# EAGLE library part SOC_RK3566 (library !GPLIB_ACTIVE)
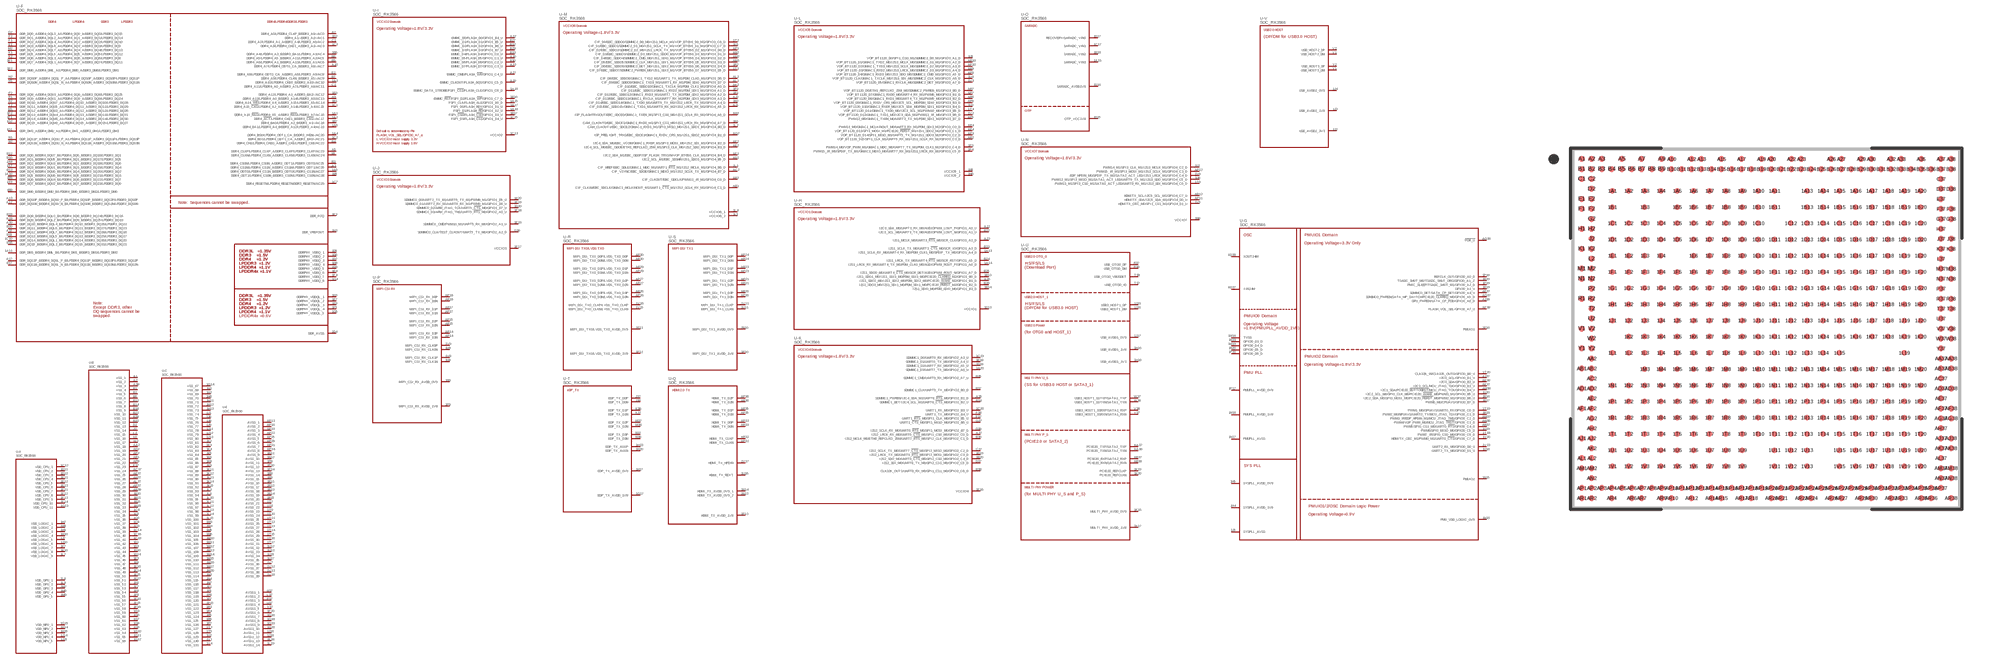
[diagram p53: symbol with the pads of BGA565C155X144; footprint BGA565C155X144]

Designator prefix U; gates -B=RK3566_VSS1 -C=RK3566_VSS2 -A=RK3566_!PWR -P=RK3566_MIPI_CSI_RX -F=RK3566-DDR -H=RK3566-H -I=RK3566-EMMC -K=RK3566-K -L=RK3566-L -R=RK3566-MIPI_DSI_TX0 -N=RK3566-N -O=RK3566-O -G=RK3566-PMU -Q=RK3566-Q -S=RK3566-S -T=RK3566-T -U=RK3566-U -V=RK3566-V -J=RK3566-VCCIO3 -M=RK3566-VCCIO6 -E=RK3566_AVSS-2

## SOC_RK3566_RK3566  [BGA565C155X144]
1A1  -F:DDR4_A16_!RAS!/LPDDR4_A5_A/DDR3_!RAS!/LPDDR3_A7/AC16
1A2  -F:DDR4_!ACT!/LPDDR4_CKE1_B/DDR3_!CAS!/-/AC17
1A3  -F:DDR4_A10/LPDDR4_CKE0_B/DDR3_A10/-/AC10
1A4  -F:DDR4_BG0/LPDDR4_ODT1_CA_B/DDR3_WEN/-/AC20
1A5  -F:DDR4_ODT0/LPDDR4_CS1N_B/DDR3_ODT0/LPDDR3_CS1N/AC27
1A6  -F:DDR4_BA1/LPDDR4_A4_B/DDR3_A12/LPDDR3_A4/AC19
1A7  -F:DDR_DQ3_B/DDR4_DQU1_B/LPDDR4_DQ3_B/DDR3_DQ19/LPDDR3_DQ4
1A8  -F:DDR_DQ2_B/DDR4_DQU3_B/LPDDR4_DQ2_B/DDR3_DQ18/LPDDR3_DQ6
1A9  -F:DDR_DQ7_B/DDR4_DQU2_B/LPDDR4_DQ7_B/DDR3_DQ23/LPDDR3_DQ0
1A10  -F:DDR_DQ5_B/DDR4_DQU6_B/LPDDR4_DQ5_B/DDR3_DQ21/LPDDR3_DQ3
1A11  -F:DDR_DM1_B/DDR4_DML_B/LPDDR4_DM1_B/DDR3_DM3/LPDDR3_DM2
1A13  -H:I2S1_SCLK_RX_M0/UART4_RX_M0/PDM_CLK1_M0/SPDIF_TX_M0/GPIO1_A4_D
1A14  -H:I2S1_LRCK_RX_M0/UART4_TX_M0/PDM_CLK0_M0/AUDIOPWM_ROUT_P/GPIO1_A6_D
1A15  -I:FSPI_CLK/FLASH_ALE/GPIO1_D0_D
1A16  -I:EMMC_DATA_STROBE/FSPI_!CS1!/FLASH_CLE/GPIO1_C6_D
1A17  -I:FSPI_D0/FLASH_RDY/GPIO1_D1_U
1A18  -I:FSPI_D1/FLASH_!RD!/GPIO1_D2_U
1A19  -O:SARADC_VIN3
1A20  -K:SDMMC1_D3/UART7_TX_M0/GPIO2_A6_U
1B1  -F:DDR4_A14_!WE!/LPDDR4_A4_A/DDR3_A15/LPDDR3_A5/AC14
1B3  -F:DDR4_A12/LPDDR4_A3_A/DDR3_BA2/-/AC12
1B5  -F:DDR4_ODT1/LPDDR4_CS0N_B/DDR3_CS0N/LPDDR3_CS0N/AC28
1B6  -F:DDR4_A4/LPDDR4_A3_B/DDR3_BA1/LPDDR3_A3/AC4
1B7  -F:DDR4_BA0/LPDDR4_A2_B/DDR3_A1/-/AC18
1B8  -F:DDR_DM0_B/DDR4_DMU_B/LPDDR4_DM0_B/DDR3_DM2/LPDDR3_DM0
1B9  -F:DDR_DQ6_B/DDR4_DQU4_B/LPDDR4_DQ6_B/DDR3_DQ22/LPDDR3_DQ7
1B10  -B:VSS_30  pwr
1B11  -B:VSS_31  pwr
1B13  -H:I2S1_SDO1_M0/I2S1_SDI3_M0/PDM_SDI3_M0/PCIE20_!CLKREQ!_M2/GPIO1_B0_D
1B14  -H:I2S1_SDI0_M0/PDM_SDI0_M0/GPIO1_B3_D
1B15  -B:VSS_32  pwr
1B16  -I:EMMC_!RST!/FSPI_D2/FLASH_!WP!/GPIO1_C7_D
1B17  -I:FSPI_!CS0!/FLASH_!CS0!/GPIO1_D3_U
1B18  -O:SARADC_VIN2
1B19  -B:VSS_33  pwr
1B20  -K:I2S2_SDO_M0/UART9_!CTS!_M0/SPI2_CS0_M0/GPIO2_C4_D
1C1  -F:DDR4_A15_!CAS!/LPDDR4_A2_A/DDR3_A14/LPDDR3_A4/AC15
1C2  -F:DDR4_BG1/LPDDR4_ODT1_CA_A/DDR3_BA0/-/AC21
1C3  -F:DDR4_A3/LPDDR4_CKE1_A/DDR3_A3/-/AC3
1C4  -B:VSS_34  pwr
1C5  -B:VSS_35  pwr
1C6  -B:VSS_36  pwr
1C7  -F:DDR4_RESETN/LPDDR4_RESETN/DDR3_RESETN/AC29
1C8  -B:VSS_37  pwr
1C9  -B:VSS_38  pwr
1C10  -F:DDR_DQ14_B/DDR4_DQL1_B/LPDDR4_DQ14_B/DDR3_DQ30/LPDDR3_DQ20
1C12  -A:VDD_CPU_1  pwr
1C13  -I:VCCIO2
1C14  -B:VSS_39  pwr
1C15  -I:FSPI_D3/FLASH_!CS1!/GPIO1_D4_U
1C16  -B:VSS_40  pwr
1C17  -O:SARADC_VIN1
1C18  -B:VSS_41  pwr
1C19  -K:SDMMC1_D0/UART6_RX_M0/GPIO2_A3_U
1C20  -K:UART1_RX_M0/GPIO2_B3_U
1D1  -B:VSS_42  pwr
1D2  -F:DDR4_A1/-/DDR3_A2/-/AC1
1D3  -B:VSS_43  pwr
1D4  -F:DDR_AVSS
1D5  -F:DDRPHY_VDDQ_1
1D6  -F:DDRPHY_VDDQ_2
1D7  -F:DDRPHY_VDDQ_3
1D8  -F:DDRPHY_VDDQ_4
1D9  -F:DDRPHY_VDDQ_5
1D10  -B:VSS_44  pwr
1D11  -A:VDD_CPU_2  pwr
1D12  -A:VDD_CPU_3  pwr
1D13  -H:VCCIO1
1D14  -B:VSS_45  pwr
1D15  -O:OTP_VCC1V8
1D16  -O:SARADC_AVDD1V8
1D17  -O:RECOVERY/SARADC_VIN0  in
1D18  -K:SDMMC1_D2/UART7_RX_M0/GPIO2_A5_U
1D19  -K:I2S2_LRCK_TX_M0/UART9_!RTS!_M0/SPI2_MOSI_M0/GPIO2_C3_D
1D20  -J:SDMMC0_D2/ARM_JTAG_TCK/UART5_!CTS!_M0/GPIO1_D7_U
1E1  -F:DDR_DQ7_A/DDR4_DQL1_A/LPDDR4_DQ7_A/DDR3_DQ7/LPDDR3_DQ11
1E2  -F:DDR_DM0_A/DDR4_DML_A/LPDDR4_DM0_A/DDR3_DM0/LPDDR3_DM1
1E3  -B:VSS_46  pwr
1E4  -F:DDRPHY_VDDQ_6
1E6  -F:DDRPHY_VDDQL_1
1E7  -F:DDRPHY_VDDQL_2
1E8  -B:VSS_47  pwr
1E9  -F:DDRPHY_VDDQL_3
1E10  -B:VSS_48  pwr
1E11  -A:VDD_CPU_4  pwr
1E12  -A:VDD_CPU_5  pwr
1E13  -A:VDD_CPU_6  pwr
1E14  -B:VSS_49  pwr
1E15  -B:VSS_50  pwr
1E16  -K:VCCIO4
1E17  -B:VSS_51  pwr
1E18  -K:SDMMC1_D1/UART6_TX_M0/GPIO2_A4_U
1E19  -J:SDMMC0_CMD/PWM10_M1/UART5_RX_M0/GPIO2_A1_U
1E20  -J:SDMMC0_D0/UART2_TX_M1/UART6_TX_M1/PWM8_M1/GPIO1_D5_U
1F1  -F:DDR_DQ14_A/DDR4_DQU6_A/LPDDR4_DQ14_A/DDR3_DQ14/LPDDR3_DQ30
1F2  -F:DDR_DQ13_A/DDR4_DQU4_A/LPDDR4_DQ13_A/DDR3_DQ13/LPDDR3_DQ31
1F3  -F:DDR_RZQ
1F4  -F:DDRPHY_VDDQ_7
1F5  -F:DDRPHY_VDDQL_4
1F6  -B:VSS_52  pwr
1F7  -B:VSS_53  pwr
1F8  -B:VSS_54  pwr
1F9  -B:VSS_55  pwr
1F10  -B:VSS_56  pwr
1F11  -A:VDD_CPU_7  pwr
1F12  -A:VDD_CPU_8  pwr
1F13  -A:VDD_CPU_9  pwr
1F14  -A:VDD_CPU_10  pwr
1F15  -B:VSS_57  pwr
1F16  -B:VSS_58  pwr
1F17  -J:VCCIO3
1F18  -J:SDMMC0_D3/ARM_JTAG_TMS/UART5_!RTS!_M0/GPIO2_A0_U
1F19  -J:SDMMC0_D1/UART2_RX_M1/UART6_RX_M1/PWM9_M1/GPIO1_D6_U
1F20  -E:AVSS1_6  pwr
1G1  -F:DDR_DM1_A/DDR4_DMU_A/LPDDR4_DM1_A/DDR3_DM1/LPDDR3_DM3
1G2  -F:DDR_DQ15_A/DDR4_DQU0_A/LPDDR4_DQ15_A/DDR3_DQ15/LPDDR3_DQ27
1G3  -B:VSS_59  pwr
1G4  -F:DDRPHY_VDDQ_8
1G5  -F:DDRPHY_VDDQL_5
1G6  -B:VSS_60  pwr
1G7  -B:VSS_61  pwr
1G8  -B:VSS_62  pwr
1G9  -B:VSS_63  pwr
1G10  -B:VSS_64  pwr
1G11  -B:VSS_65  pwr
1G12  -B:VSS_66  pwr
1G13  -A:VDD_CPU_11  pwr
1G14  -C:VSS_67  pwr
1G15  -A:VDD_NPU_1  pwr
1G16  -E:AVSS1_7  pwr
1G17  -T:EDP_TX_AVDD_1V8
1G18  -E:AVSS1_8  pwr
1G19  -E:AVSS1_9  pwr
1G20  -E:AVSS1_10  pwr
1H1  -C:VSS_68  pwr
1H2  -C:VSS_69  pwr
1H3  -F:DDR_VREFOUT
1H4  -G:SYSPLL_AVDD_1V8  pwr
1H5  -G:SYSPLL_AVDD_0V9  pwr
1H6  -C:VSS_70  pwr
1H7  -A:VDD_LOGIC_1  pwr
1H8  -A:VDD_LOGIC_2  pwr
1H9  -A:VDD_LOGIC_3  pwr
1H10  -A:VDD_LOGIC_4  pwr
1H11  -C:VSS_71  pwr
1H12  -C:VSS_72  pwr
1H13  -C:VSS_73  pwr
1H14  -A:VDD_NPU_2  pwr
1H15  -A:VDD_NPU_3  pwr
1H16  -U:USB_AVDD1_1V8  pwr
1H17  -T:EDP_TX_AVDD_0V9
1H18  -U:USB_AVDD1_3V3  pwr
1H19  -T:EDP_TX_AUXP
1H20  -T:EDP_TX_AUXN
1J1  -C:VSS_74  pwr
1J2  -V:USB_AVDD2_3V3  pwr
1J3  -V:USB_AVDD2_1V8  pwr
1J4  -V:USB_AVDD2_0V9  pwr
1J5  -G:SYSPLL_AVSS  pwr
1J6  -C:VSS_75  pwr
1J7  -A:VDD_LOGIC_5  pwr
1J8  -C:VSS_76  pwr
1J9  -C:VSS_77  pwr
1J10  -A:VDD_LOGIC_6  pwr
1J11  -C:VSS_78  pwr
1J12  -C:VSS_79  pwr
1J13  -C:VSS_80  pwr
1J14  -A:VDD_NPU_4  pwr
1J15  -A:VDD_NPU_5  pwr
1J16  -E:AVSS1_11  pwr
1J17  -U:USB_AVDD1_0V9  pwr
1J18  -E:AVSS1_12  pwr
1J19  -U:USB3_HOST1_DP
1J20  -U:USB3_HOST1_DM
1K2  -C:VSS_81  pwr
1K3  -C:VSS_82  pwr
1K4  -C:VSS_83  pwr
1K5  -C:VSS_84  pwr
1K6  -C:VSS_85  pwr
1K7  -A:VDD_LOGIC_7  pwr
1K8  -C:VSS_86  pwr
1K9  -C:VSS_87  pwr
1K10  -A:VDD_LOGIC_8  pwr
1K11  -C:VSS_88  pwr
1K12  -C:VSS_89  pwr
1K13  -C:VSS_90  pwr
1K14  -C:VSS_91  pwr
1K15  -C:VSS_92  pwr
1K16  -U:MULTI_PHY_AVDD_0V9
1K17  -U:MULTI_PHY_AVDD_1V8
1K18  -E:AVSS1_13  pwr
1K19  -U:PCIE20_REFCLKP
1K20  -U:PCIE20_REFCLKN
1L1  -M:CIF_HREF/EBC_SDLE/GMAC1_MDC_M1/UART1_!RTS!_M1/I2S2_MCLK_M1/GPIO4_B6_D
1L2  -M:CAM_CLKOUT1/EBC_SDCE2/GMAC1_RXD1_M1/SPI3_MISO_M0/I2S1_SDO1_M1/GPIO4_B0_D
1L3  -C:VSS_93  pwr
1L4  -M:VCCIO6_1
1L5  -M:VCCIO6_2
1L6  -C:VSS_94  pwr
1L7  -A:VDD_LOGIC_9  pwr
1L8  -A:VDD_GPU_1  pwr
1L9  -A:VDD_GPU_2  pwr
1L10  -C:VSS_95  pwr
1L11  -C:VSS_96  pwr
1L12  -C:VSS_97  pwr
1L13  -C:VSS_98  pwr
1L14  -C:VSS_99  pwr
1L15  -C:VSS_100  pwr
1L19  -E:AVSS1_14  pwr
1M3  -C:VSS_101  pwr
1M4  -C:VSS_102  pwr
1M5  -C:VSS_103  pwr
1M6  -C:VSS_104  pwr
1M7  -A:VDD_GPU_3  pwr
1M8  -A:VDD_GPU_4  pwr
1M9  -A:VDD_GPU_5  pwr
1M10  -C:VSS_105  pwr
1M11  -C:VSS_106  pwr
1M12  -C:VSS_107  pwr
1M13  -C:VSS_108  pwr
1M14  -C:VSS_109  pwr
1M15  -C:VSS_110  pwr
1M16  -C:VSS_111  pwr
1M17  -C:VSS_112  pwr
1M18  -G:TVSS  pwr
1M19  -G:GPIO0_D4_D
1M20  -C:VSS_113  pwr
1N1  -M:CAM_CLKOUT0/EBC_SDCE1/GMAC1_RXD0_M1/SPI3_CS1_M0/I2S1_LRCK_RX_M1/GPIO4_A7_D
1N2  -M:CIF_D14/EBC_SDDO14/GMAC1_TXD0_M1/UART9_TX_M2/I2S2_LRCK_TX_M1/GPIO4_A4_D
1N3  -C:VSS_114  pwr
1N4  -C:VSS_115  pwr
1N5  -L:VCCIO5_1
1N6  -L:VCCIO5_2
1N7  -C:VSS_116  pwr
1N8  -N:VCCIO7
1N9  -P:MIPI_CSI_RX_AVDD_0V9  pwr
1N10  -S:MIPI_DSI_TX1_AVDD_0V9
1N11  -E:AVSS_9  pwr
1N12  -E:AVSS_10  pwr
1N13  -Q:HDMI_TX_AVDD_0V9_2
1N14  -Q:HDMI_TX_AVDD_0V9_1
1N15  -G:PMUIO2
1N16  -G:PMU_VDD_LOGIC_0V9
1N17  -G:PMUPLL_AVSS  pwr
1N18  -G:PMUPLL_AVDD_1V8  pwr
1N19  -G:GPIO0_D3_D
1N20  -G:GPIO0_D5_D
1P1  -C:VSS_117  pwr
1P2  -M:CIF_D11/EBC_SDDO11/GMAC1_RXD2_M1/PDM_SDI1_M1/GPIO4_A1_D
1P3  -L:PWM14_M0/VOP_PWM_M1/GMAC1_MDC_M0/UART7_TX_M1/PDM_CLK1_M2/GPIO3_C4_D
1P4  -L:PWM15_IR_M0/SPDIF_TX_M1/GMAC1_MDIO_M0/UART7_RX_M1/I2S1_LRCK_RX_M2/GPIO3_C5_D
1P5  -C:VSS_118  pwr
1P6  -C:VSS_119  pwr
1P7  -C:VSS_120  pwr
1P8  -E:AVSS_11  pwr
1P9  -P:MIPI_CSI_RX_AVDD_1V8  pwr
1P10  -E:AVSS_12  pwr
1P11  -R:MIPI_DSI_TX0/LVDS_TX0_AVDD_0V9
1P12  -R:MIPI_DSI_TX0/LVDS_TX0_AVDD_1V8
1P13  -Q:HDMI_TX_AVDD_1V8
1P14  -E:AVSS_13  pwr
1P15  -C:VSS_121  pwr
1P16  -G:PMUIO1
1P17  -G:PMUPLL_AVDD_0V9  pwr
1P18  -G:REFCLK_OUT/GPIO0_A0_D
1P19  -G:PMIC_SLEEP/TSADC_SHUT_M1/GPIO0_A2_D
1P20  -G:GPIO0_D6_D
1R1  -M:CIF_D12/EBC_SDDO12/GMAC1_RXD3_M1/UART7_TX_M2/PDM_SDI2_M1/GPIO4_A2_D
1R2  -M:CIF_D6/EBC_SDDO6/SDMMC2_DET_M0/I2S1_SDI2_M1/VOP_BT656_D6_M1/GPIO3_D4_D
1R3  -C:VSS_122  pwr
1R4  -C:VSS_123  pwr
1R5  -C:VSS_124  pwr
1R6  -C:VSS_125  pwr
1R7  -C:VSS_126  pwr
1R8  -E:AVSS_14  pwr
1R9  -E:AVSS_15  pwr
1R10  -S:MIPI_DSI_TX1_AVDD_1V8
1R11  -E:AVSS_16  pwr
1R12  -E:AVSS_17  pwr
1R13  -E:AVSS_18  pwr
1R14  -E:AVSS_19  pwr
1R15  -E:AVSS_20  pwr
1R16  -G:I2C2_SDA_M0/SPI0_MOSI_M0/PCIE20_!PERST!_M0/PWM2_M1/GPIO0_B6_U
1R17  -G:PWM0_M0/CPUAVS/GPIO0_B7_D
1R18  -G:PWM2_M0/NPUAVS/UART0_TX/MCU_JTAG_TDI/GPIO0_C1_D
1R19  -G:GPIO0_A3_U
1R20  -G:TSADC_SHUT_M0/TSADC_SHUT_ORG/GPIO0_A1_Z
1T1  -M:CIF_D7/EBC_SDDO7/SDMMC2_PWREN_M0/I2S1_SDI3_M1/VOP_BT656_D7_M1/GPIO3_D5_D
1T2  -M:CIF_D0/EBC_SDDO0/SDMMC2_D0_M0/I2S1_MCLK_M1/VOP_BT656_D0_M1/GPIO3_C6_D
1T3  -C:VSS_127  pwr
1T4  -L:VOP_BT1120_D11/GMAC1_TXD0_M0/I2C3_SCL_M1/PWM10_M0/GPIO3_B5_D
1T5  -C:VSS_128  pwr
1T6  -N:PWM13_M1/SPI3_CS0_M1/SATA0_ACT_LED/UART9_RX_M1/I2S3_SDI_M1/GPIO4_C6_D
1T7  -E:AVSS_21  pwr
1T8  -E:AVSS_22  pwr
1T9  -E:AVSS_23  pwr
1T10  -E:AVSS_24  pwr
1T11  -E:AVSS_25  pwr
1T12  -E:AVSS_26  pwr
1T13  -E:AVSS_27  pwr
1T14  -E:AVSS_28  pwr
1T15  -E:AVSS_29  pwr
1T16  -E:AVSS_30  pwr
1T17  -E:AVSS_31  pwr
1T18  -G:PWM7_IR/SPI0_CS0_M0/GPIO0_C6_D
1T19  -G:PWM1_M0/GPUAVS/UART0_RX/GPIO0_C0_D
1T20  -G:CLK32K_IN/CLK32K_OUT0/GPIO0_B0_U
1U1  -M:CIF_D1/EBC_SDDO1/SDMMC2_D1_M0/I2S1_SCLK_TX_M1/VOP_BT656_D1_M1/GPIO3_C7_D
1U2  -C:VSS_129  pwr
1U3  -L:VOP_BT1120_D10/GMAC1_RXER_M0/I2C5_SDA_M0/PDM_SDI1_M2/GPIO3_B4_D
1U4  -L:VOP_BT1120_CLK/GMAC1_TXCLK_M0/I2S3_SDI_M0/SDMMC2_CLK_M1/GPIO3_A6_D
1U5  -L:VOP_BT1120_D0/SPI1_CS0_M1/SDMMC2_D0_M1/GPIO3_A1_D
1U6  -N:PWM12_M1/SPI3_MISO_M1/SATA1_ACT_LED/UART9_TX_M1/I2S3_SDO_M1/GPIO4_C5_D
1U7  -N:PWM14_M1/SPI3_CLK_M1/I2S3_MCLK_M1/GPIO4_C2_D
1U8  -P:MIPI_CSI_RX_CLK1N
1U9  -P:MIPI_CSI_RX_CLK0N
1U11  -S:MIPI_DSI_TX1_CLKN
1U12  -E:AVSS_32  pwr
1U13  -E:AVSS_33  pwr
1U15  -E:AVSS_34  pwr
1U16  -Q:HDMI_TX_REXT
1U17  -E:AVSS_35  pwr
1U18  -G:UART2_TX_M0/GPIO0_D1_U
1U19  -G:PWM6/SPI0_MISO_M0/GPIO0_C5_D
1U20  -G:I2C2_SCL_M0/SPI0_CLK_M0/PCIE20_!WAKE!_M0/PWM1_M1/GPIO0_B5_U
1V1  -C:VSS_130  pwr
1V2  -L:VOP_BT1120_D12/GMAC1_TXD1_M0/I2C3_SDA_M1/PWM11_IR_M0/GPIO3_B6_D
1V3  -L:VOP_BT1120_D5/GMAC1_RXCLK_M0/SDMMC2_DET_M1/GPIO3_A7_D
1V4  -C:VSS_131  pwr
1V5  -N:HDMITX_CEC_M0/SPI3_CS1_M1/GPIO4_D1_U
1V6  -N:EDP_HPDIN_M0/SPDIF_TX_M2/SATA2_ACT_LED/I2S3_LRCK_M1/GPIO4_C4_D
1V7  -E:AVSS_36  pwr
1V8  -P:MIPI_CSI_RX_CLK1P
1V9  -P:MIPI_CSI_RX_CLK0P
1V11  -S:MIPI_DSI_TX1_CLKP
1V12  -E:AVSS_37  pwr
1V13  -E:AVSS_38  pwr
1V15  -R:MIPI_DSI_TX0_CLKN/LVDS_TX0_CLKN
1V16  -R:MIPI_DSI_TX0_CLKP/LVDS_TX0_CLKP
1V17  -Q:HDMI_TX_HPDIN
1V18  -E:AVSS_39  pwr
1V19  -G:UART2_RX_M0/GPIO0_D0_U
1V20  -G:HDMITX_CEC_M1/PWM0_M1/UART0_!CTS!/GPIO0_C7_D
A1  -B:VSS_1  pwr
A2  -B:VSS_2  pwr
A3  -F:DDR4_CS1N/LPDDR4_CS1N_A/DDR3_CS1N/LPDDR3_ODT1/AC26
A5  -F:DDR4_CLKP/LPDDR4_CLKP_A/DDR3_CLKP/LPDDR3_CLKP/AC23
A7  -F:DDR4_A0/LPDDR4_CLKP_B/DDR3_A9/-/AC0
A9  -F:DDR4_A13/LPDDR4_A0_B/DDR3_A14/LPDDR3_A0/AC13
A10  -F:DDR4_A7/LPDDR4_ODT0_CA_B/DDR3_A8/-/AC7
A12  -F:DDR_DQS0N_B/DDR4_DQSU_N_B/LPDDR4_DQS0N_B/DDR3_DQS2N/LPDDR3_DQS0N
A13  -F:DDR_DQS0P_B/DDR4_DQSU_P_B/LPDDR4_DQS0P_B/DDR3_DQS2P/LPDDR3_DQS0P
A15  -F:DDR_DQ12_B/DDR4_DQL7_B/LPDDR4_DQ12_B/DDR3_DQ28/LPDDR3_DQ16
A17  -F:DDR_DQS1P_B/DDR4_DQSL_P_B/LPDDR4_DQS1P_B/DDR3_DQS3P/LPDDR3_DQS2P
A19  -F:DDR_DQ9_B/DDR4_DQL2_B/LPDDR4_DQ9_B/DDR3_DQ25/LPDDR3_DQ19
A20  -F:DDR_DQ10_B/DDR4_DQL4_B/LPDDR4_DQ10_B/DDR3_DQ26/LPDDR3_DQ22
A22  -H:I2C3_SDA_M0/UART3_RX_M0/AUDIOPWM_LOUT_P/GPIO1_A0_U
A23  -H:I2S1_MCLK_M0/UART3_!RTS!_M0/SCR_CLK/GPIO1_A2_D
A26  -H:I2S1_SDO2_M0/I2S1_SDI2_M0/PDM_SDI2_M0/PCIE20_!WAKE!_M2/GPIO1_B1_D
A27  -I:EMMC_CMD/FLASH_!WR!/GPIO1_C4_U
A29  -I:EMMC_CLKOUT/FLASH_DQS/GPIO1_C5_D
A30  -I:EMMC_D5/FLASH_D5/GPIO1_C1_U
A32  -I:EMMC_D0/FLASH_D0/GPIO1_B4_U
A33  -I:EMMC_D7/FLASH_D7/GPIO1_C3_U
A35  -K:SDMMC1_PWREN/I2C4_SDA_M1/UART8_!RTS!_M0/GPIO2_B1_D
A37  -K:I2S2_LRCK_RX_M0/UART6_!CTS!_M0/SPI1_CS0_M0/GPIO2_C0_D
A38  -B:VSS_3  pwr
AA2  -B:VSS_18  pwr
AA37  -U:PCIE20_TXP/SATA2_TXP  out
AA38  -U:PCIE20_TXN/SATA2_TXN  out
AB1  -M:CIF_CLKIN/EBC_SDCLK/GMAC1_MCLKINOUT_M1/UART1_!CTS!_M1/I2S2_SCLK_RX_M1/GPIO4_C1_D
AB2  -M:CIF_CLKOUT/EBC_GDCLK/PWM11_IR_M1/GPIO4_C0_D
AB37  -U:PCIE20_RXP/SATA2_RXP  in
AB38  -U:PCIE20_RXN/SATA2_RXN  in
AC2  -M:CIF_VSYNC/EBC_SDOE/GMAC1_MDIO_M1/I2S2_SCLK_TX_M1/GPIO4_B7_D
AC37  -B:VSS_24  pwr
AD1  -M:I2C2_SCL_M1/EBC_SDSHR/I2S1_SDO3_M1/GPIO4_B5_D
AD2  -B:VSS_19  pwr
AD37  -G:XIN24M
AD38  -G:XOUT24M
AE2  -M:I2C4_SCL_M0/EBC_GDOE/ETH1_REFCLKO_25M_M1/SPI3_CLK_M0/I2S2_SDO_M1/GPIO4_B3_D
AE37  -B:VSS_25  pwr
AF1  -M:I2C2_SDA_M1/EBC_GDSP/ISP_FLASH_TRIGIN/VOP_BT656_CLK_M1/GPIO4_B4_D
AF2  -M:I2C4_SDA_M0/EBC_VCOM/GMAC1_RXER_M1/SPI3_MOSI_M0/I2S2_SDI_M1/GPIO4_B2_D
AF37  -G:SDMMC0_DET/SATA_CP_DET/GPIO0_A4_U
AF38  -G:FLASH_VOL_SEL/GPIO0_A7_U
AG2  -M:ISP_PRELIGHT_TRIG/EBC_SDCE3/GMAC1_RXDV_CRS_M1/I2S1_SDO2_M1/GPIO4_B1_D
AG37  -G:SDMMC0_PWREN/SATA_MP_SWITCH/PCIE20_!CLKREQ!_M0/GPIO0_A5_D
AG38  -G:!POR_U  in
AH2  -M:ISP_FLASHTRIGOUT/EBC_SDCE0/GMAC1_TXEN_M1/SPI3_CS0_M0/I2S1_SCLK_RX_M1/GPIO4_A6_D
AH37  -B:VSS_26  pwr
AJ1  -M:CIF_D15/EBC_SDDO15/GMAC1_TXD1_M1/UART9_RX_M2/I2S2_LRCK_RX_M1/GPIO4_A5_D
AJ2  -M:CIF_D13/EBC_SDDO13/GMAC1_RXCLK_M1/UART7_RX_M2/PDM_SDI3_M1/GPIO4_A3_D
AJ37  -G:I2C0_SCL/GPIO0_B1_U
AJ38  -G:GPU_PWREN/SATA_CP_POD/GPIO0_A6_D
AK2  -M:CIF_D10/EBC_SDDO10/GMAC1_TXCLK_M1/PDM_CLK1_M1/GPIO4_A0_D
AK37  -G:I2C1_SCL/MCU_JTAG_TDO/GPIO0_B3_U
AK38  -G:I2C0_SDA/GPIO0_B2_U
AL1  -M:CIF_D9/EBC_SDDO9/GMAC1_TXD3_M1/UART1_RX_M1/PDM_SDI0_M1/GPIO3_D7_D
AL2  -M:CIF_D8/EBC_SDDO8/GMAC1_TXD2_M1/UART1_TX_M1/PDM_CLK0_M1/GPIO3_D6_D
AL37  -B:VSS_27  pwr
AM1  -M:CIF_D5/EBC_SDDO5/SDMMC2_CLK_M0/I2S1_SDI1_M1/VOP_BT656_D5_M1/GPIO3_D3_D
AM2  -M:CIF_D4/EBC_SDDO4/SDMMC2_CMD_M0/I2S1_SDI0_M1/VOP_BT656_D4_M1/GPIO3_D2_D
AM37  -G:PWM3_IR/EDP_HPDIN_M1/MCU_JTAG_TMS/GPIO0_C2_D
AM38  -G:I2C1_SDA/PCIE20_!BUTTONRST!/MCU_JTAG_TCK/GPIO0_B4_U
AN2  -M:CIF_D3/EBC_SDDO3/SDMMC2_D3_M0/I2S1_SDO0_M1/VOP_BT656_D3_M1/GPIO3_D1_D
AN37  -G:PWM5/SPI0_CS1_M0/UART0_!RTS!/GPIO0_C4_D
AN38  -G:PWM4/VOP_PWM_M0/MCU_JTAG_!TRST!/GPIO0_C3_D
AP1  -M:CIF_D2/EBC_SDDO2/SDMMC2_D2_M0/I2S1_LRCK_TX_M1/VOP_BT656_D2_M1/GPIO3_D0_D
AP2  -B:VSS_20  pwr
AP3  -L:VOP_BT1120_D14/SPI1_MISO_M1/UART5_TX_M1/I2S1_SDO3_M2/GPIO3_C2_D
AP4  -L:VOP_BT1120_D13/SPI1_MOSI_M1/PCIE20_!PERST!_M1/I2S1_SDO2_M2/GPIO3_C1_D
AP5  -L:PWM12_M0/GMAC1_TXEN_M0/UART3_TX_M1/PDM_SDI2_M2/GPIO3_B7_D
AP6  -L:VOP_BT1120_D9/GMAC1_RXDV_CRS_M0/I2C5_SCL_M0/PDM_SDI0_M2/GPIO3_B3_D
AP7  -L:VOP_BT1120_D7/GMAC1_RXD0_M0/UART4_RX_M1/PWM8_M0/GPIO3_B1_D
AP8  -B:VSS_22  pwr
AP9  -L:VOP_BT1120_D4/GMAC1_RXD3_M0/I2S3_SDO_M0/SDMMC2_CMD_M1/GPIO3_A5_D
AP10  -L:VOP_BT1120_D2/GMAC1_TXD3_M0/I2S3_SCLK_M0/SDMMC2_D2_M1/GPIO3_A3_D
AP11  -N:HDMITX_SDA/I2C5_SDA_M1/GPIO4_D0_U
AP12  -N:PWM15_IR_M1/SPI3_MOSI_M1/I2S3_SCLK_M1/GPIO4_C3_D
AP13  -E:AVSS_1  pwr
AP14  -P:MIPI_CSI_RX_D3N
AP15  -P:MIPI_CSI_RX_D2P
AP16  -E:AVSS_2  pwr
AP17  -P:MIPI_CSI_RX_D1N
AP18  -P:MIPI_CSI_RX_D0P
AP19  -E:AVSS_3  pwr
AP20  -S:MIPI_DSI_TX1_D3N
AP21  -S:MIPI_DSI_TX1_D2P
AP22  -E:AVSS_4  pwr
AP23  -S:MIPI_DSI_TX1_D1N
AP24  -S:MIPI_DSI_TX1_D0P
AP25  -E:AVSS_5  pwr
AP26  -R:MIPI_DSI_TX0_D3N/LVDS_TX0_D3N
AP27  -R:MIPI_DSI_TX0_D2P/LVDS_TX0_D2P
AP28  -E:AVSS_6  pwr
AP29  -R:MIPI_DSI_TX0_D1N/LVDS_TX0_D1N
AP30  -R:MIPI_DSI_TX0_D0P/LVDS_TX0_D0P
AP31  -E:AVSS_7  pwr
AP32  -Q:HDMI_TX_CLKN
AP33  -Q:HDMI_TX_D0P
AP34  -E:AVSS_8  pwr
AP35  -Q:HDMI_TX_D1N
AP36  -Q:HDMI_TX_D2P
AP37  -B:VSS_28  pwr
AR1  -B:VSS_21  pwr
AR2  -L:VOP_BT1120_D15/SPI1_CLK_M1/UART5_RX_M1/I2S1_SCLK_RX_M2/GPIO3_C3_D
AR4  -L:PWM13_M0/GMAC1_MCLKINOUT_M0/UART3_RX_M1/PDM_SDI3_M2/GPIO3_C0_D
AR6  -L:VOP_BT1120_D8/GMAC1_RXD1_M0/UART4_TX_M1/PWM9_M0/GPIO3_B2_D
AR7  -L:VOP_BT1120_D6/ETH1_REFCLKO_25M_M0/SDMMC2_PWREN_M1/GPIO3_B0_D
AR9  -L:VOP_BT1120_D3/GMAC1_RXD2_M0/I2S3_LRCK_M0/SDMMC2_D3_M1/GPIO3_A4_D
AR10  -L:VOP_BT1120_D1/GMAC1_TXD2_M0/I2S3_MCLK_M0/SDMMC2_D1_M1/GPIO3_A2_D
AR12  -N:HDMITX_SCL/I2C5_SCL_M1/GPIO4_C7_U
AR14  -P:MIPI_CSI_RX_D3P
AR15  -P:MIPI_CSI_RX_D2N
AR17  -P:MIPI_CSI_RX_D1P
AR18  -P:MIPI_CSI_RX_D0N
AR20  -S:MIPI_DSI_TX1_D3P
AR21  -S:MIPI_DSI_TX1_D2N
AR23  -S:MIPI_DSI_TX1_D1P
AR24  -S:MIPI_DSI_TX1_D0N
AR26  -R:MIPI_DSI_TX0_D3P/LVDS_TX0_D3P
AR27  -R:MIPI_DSI_TX0_D2N/LVDS_TX0_D2N
AR29  -R:MIPI_DSI_TX0_D1P/LVDS_TX0_D1P
AR30  -R:MIPI_DSI_TX0_D0N/LVDS_TX0_D0N
AR32  -Q:HDMI_TX_CLKP
AR33  -Q:HDMI_TX_D0N
AR35  -Q:HDMI_TX_D1P
AR36  -Q:HDMI_TX_D2N
AR38  -B:VSS_29  pwr
B1  -B:VSS_4  pwr
B2  -B:VSS_5  pwr
B3  -F:DDR4_CS0N/LPDDR4_CS0N_A/DDR3_ODT1/LPDDR3_ODT0/AC25
B4  -F:DDR4_CKE/LPDDR4_CKE0_A/DDR3_CKE/LPDDR3_CKE/AC22
B5  -F:DDR4_CLKN/LPDDR4_CLKN_A/DDR3_CLKN/LPDDR3_CLKN/AC24
B6  -B:VSS_6  pwr
B7  -F:DDR4_A9/LPDDR4_CLKN_B/DDR3_A5/-/AC9
B8  -F:DDR4_A5/LPDDR4_A5_B/DDR3_A11/LPDDR3_A2/AC5
B9  -F:DDR4_A6/LPDDR4_A1_B/DDR3_A13/LPDDR3_A1/AC6
B10  -F:DDR_DQ1_B/DDR4_DQU5_B/LPDDR4_DQ1_B/DDR3_DQ17/LPDDR3_DQ5
B11  -B:VSS_7  pwr
B12  -F:DDR_DQ0_B/DDR4_DQU7_B/LPDDR4_DQ0_B/DDR3_DQ16/LPDDR3_DQ1
B13  -F:DDR_DQ4_B/DDR4_DQU0_B/LPDDR4_DQ4_B/DDR3_DQ20/LPDDR3_DQ2
B14  -B:VSS_8  pwr
B15  -F:DDR_DQ13_B/DDR4_DQL5_B/LPDDR4_DQ13_B/DDR3_DQ29/LPDDR3_DQ17
B16  -F:DDR_DQ15_B/DDR4_DQL3_B/LPDDR4_DQ15_B/DDR3_DQ31/LPDDR3_DQ21
B17  -F:DDR_DQS1N_B/DDR4_DQSL_N_B/LPDDR4_DQS1N_B/DDR3_DQS3N/LPDDR3_DQS2N
B18  -B:VSS_9  pwr
B19  -F:DDR_DQ8_B/DDR4_DQL0_B/LPDDR4_DQ8_B/DDR3_DQ24/LPDDR3_DQ18
B20  -F:DDR_DQ11_B/DDR4_DQL6_B/LPDDR4_DQ11_B/DDR3_DQ27/LPDDR3_DQ23
B21  -B:VSS_10  pwr
B22  -H:I2C3_SCL_M0/UART3_TX_M0/AUDIOPWM_LOUT_N/GPIO1_A1_U
B23  -H:I2S1_SCLK_TX_M0/UART3_!CTS!_M0/SCR_IO/GPIO1_A3_D
B24  -H:I2S1_LRCK_TX_M0/UART4_!RTS!_M0/SCR_RST/GPIO1_A5_D
B25  -H:I2S1_SDO0_M0/UART4_!CTS!_M0/SCR_DET/AUDIOPWM_ROUT_N/GPIO1_A7_D
B26  -H:I2S1_SDO3_M0/I2S1_SDI1_M0/PDM_SDI1_M0/PCIE20_!PERST!_M2/GPIO1_B2_D
B27  -I:EMMC_D1/FLASH_D1/GPIO1_B5_U
B28  -B:VSS_11  pwr
B29  -I:EMMC_D3/FLASH_D3/GPIO1_B7_U
B30  -I:EMMC_D6/FLASH_D6/GPIO1_C2_U
B31  -B:VSS_12  pwr
B32  -I:EMMC_D2/FLASH_D2/GPIO1_B6_U
B33  -I:EMMC_D4/FLASH_D4/GPIO1_C0_U
B34  -K:SDMMC1_DET/I2C4_SCL_M1/UART8_!CTS!_M0/GPIO2_B2_U
B35  -K:SDMMC1_CMD/UART9_RX_M0/GPIO2_A7_U
B36  -K:I2S2_MCLK_M0/ETH0_REFCLKO_25M/UART7_!RTS!_M0/SPI2_CLK_M0/GPIO2_C1_D
B37  -K:SDMMC1_CLK/UART9_TX_M0/GPIO2_B0_D
B38  -K:CLK32K_OUT1/UART8_RX_M0/SPI1_CS1_M0/GPIO2_C6_D
C1  -F:DDR4_A2/LPDDR4_A1_A/DDR3_A4/LPDDR3_A6/AC2
C2  -F:DDR4_A11/LPDDR4_A0_A/DDR3_A7/LPDDR3_A8/AC11
C37  -K:I2S2_SCLK_TX_M0/UART7_!CTS!_M0/SPI2_MISO_M0/GPIO2_C2_D
D2  -B:VSS_13  pwr
D37  -K:I2S2_SDI_M0/UART8_TX_M0/SPI2_CS1_M0/GPIO2_C5_D
D38  -K:I2S2_SCLK_RX_M0/UART6_!RTS!_M0/SPI1_MOSI_M0/GPIO2_B7_D
E1  -F:DDR_DQ3_A/DDR4_DQL6_A/LPDDR4_DQ3_A/DDR3_DQ3/LPDDR3_DQ9
E2  -F:DDR4_A8/LPDDR4_ODT0_CA_A/DDR3_A6/LPDDR3_A9/AC8
E37  -B:VSS_23  pwr
F1  -F:DDR_DQ2_A/DDR4_DQL4_A/LPDDR4_DQ2_A/DDR3_DQ2/LPDDR3_DQ10
F2  -F:DDR_DQ1_A/DDR4_DQL2_A/LPDDR4_DQ1_A/DDR3_DQ1/LPDDR3_DQ14
F37  -K:UART1_!RTS!_M0/SPI1_CLK_M0/GPIO2_B5_U
F38  -K:UART1_TX_M0/GPIO2_B4_U
G2  -F:DDR_DQ0_A/DDR4_DQL0_A/LPDDR4_DQ0_A/DDR3_DQ0/LPDDR3_DQ15
G37  -K:UART1_!CTS!_M0/SPI1_MISO_M0/GPIO2_B6_U
G38  -J:SDMMC0_CLK/TEST_CLKOUT/UART5_TX_M0/GPIO2_A2_D
H1  -F:DDR_DQS0N_A/DDR4_DQSL_N_A/LPDDR4_DQS0N_A/DDR3_DQS0N/LPDDR3_DQS1N
H2  -F:DDR_DQS0P_A/DDR4_DQSL_P_A/LPDDR4_DQS0P_A/DDR3_DQS0P/LPDDR3_DQS1P
H37  -E:AVSS1_1  pwr
J2  -B:VSS_14  pwr
J37  -T:EDP_TX_D0P
J38  -T:EDP_TX_D0N
K1  -F:DDR_DQ5_A/DDR4_DQL5_A/LPDDR4_DQ5_A/DDR3_DQ5/LPDDR3_DQ12
K2  -F:DDR_DQ6_A/DDR4_DQL3_A/LPDDR4_DQ6_A/DDR3_DQ6/LPDDR3_DQ8
K37  -T:EDP_TX_D1N
K38  -T:EDP_TX_D1P
L2  -B:VSS_15  pwr
L37  -E:AVSS1_2  pwr
M1  -F:DDR_DQ12_A/DDR4_DQU2_A/LPDDR4_DQ12_A/DDR3_DQ12/LPDDR3_DQ26
M2  -F:DDR_DQ4_A/DDR4_DQL7_A/LPDDR4_DQ4_A/DDR3_DQ4/LPDDR3_DQ13
M37  -T:EDP_TX_D2P
M38  -T:EDP_TX_D2N
N1  -F:DDR_DQS1P_A/DDR4_DQSU_P_A/LPDDR4_DQS1P_A/DDR3_DQS1P/LPDDR3_DQS3P
N2  -F:DDR_DQS1N_A/DDR4_DQSU_N_A/LPDDR4_DQS1N_A/DDR3_DQS1N/LPDDR3_DQS3N
N37  -T:EDP_TX_D3P
N38  -T:EDP_TX_D3N
P2  -F:DDR_DQ8_A/DDR4_DQU3_A/LPDDR4_DQ8_A/DDR3_DQ8/LPDDR3_DQ25
P37  -E:AVSS1_3  pwr
R1  -F:DDR_DQ9_A/DDR4_DQU1_A/LPDDR4_DQ9_A/DDR3_DQ9/LPDDR3_DQ24
R2  -F:DDR_DQ10_A/DDR4_DQU7_A/LPDDR4_DQ10_A/DDR3_DQ10/LPDDR3_DQ28
R37  -U:USB_OTG0_DP
R38  -U:USB_OTG0_DM
T2  -F:DDR_DQ11_A/DDR4_DQU5_A/LPDDR4_DQ11_A/DDR3_DQ11/LPDDR3_DQ29
T37  -U:USB_OTG0_ID  in
T38  -U:USB_OTG0_VBUSDET  in
U2  -B:VSS_16  pwr
U37  -E:AVSS1_4  pwr
V1  -V:USB_HOST2_DM
V2  -V:USB_HOST2_DP
V37  -U:USB3_HOST1_SSRXN/SATA1_RXN  in
V38  -U:USB3_HOST1_SSRXP/SATA1_RXP  in
W2  -B:VSS_17  pwr
W37  -U:USB3_HOST1_SSTXP/SATA1_TXP  out
W38  -U:USB3_HOST1_SSTXN/SATA1_TXN  out
Y1  -V:USB_HOST3_DM
Y2  -V:USB_HOST3_DP
Y37  -E:AVSS1_5  pwr

## Footprint BGA565C155X144 (pad centres in mm)
565-Ball, FCCSP565L, BGA-565(15.5x14.4)
smd 0.22 x 0.22: 1A1 -6.175,5.525; 1A2 -5.525,5.525; 1A3 -4.875,5.525; 1A4 -4.225,5.525; 1A5 -3.575,5.525; 1A6 -2.925,5.525; 1A7 -2.275,5.525; 1A8 -1.625,5.525; 1A9 -0.975,5.525; 1A10 -0.325,5.525; 1A11 0.325,5.525; 1A13 1.625,5.525; 1A14 2.275,5.525; 1A15 2.925,5.525; 1A16 3.575,5.525; 1A17 4.225,5.525; 1A18 4.875,5.525; 1A19 5.525,5.525; 1A20 6.175,5.525; 1B1 -6.175,4.875; 1B3 -4.875,4.875; 1B5 -3.575,4.875; 1B6 -2.925,4.875; 1B7 -2.275,4.875; 1B8 -1.625,4.875; 1B9 -0.975,4.875; 1B10 -0.325,4.875; 1B11 0.325,4.875; 1B13 1.625,4.875; 1B14 2.275,4.875; 1B15 2.925,4.875; 1B16 3.575,4.875; 1B17 4.225,4.875; 1B18 4.875,4.875; 1B19 5.525,4.875; 1B20 6.175,4.875; 1C1 -6.175,4.225; 1C2 -5.525,4.225; 1C3 -4.875,4.225; 1C4 -4.225,4.225; 1C5 -3.575,4.225; 1C6 -2.925,4.225; 1C7 -2.275,4.225; 1C8 -1.625,4.225; 1C9 -0.975,4.225; 1C10 -0.325,4.225; 1C12 0.975,4.225; 1C13 1.625,4.225; 1C14 2.275,4.225; 1C15 2.925,4.225; 1C16 3.575,4.225; 1C17 4.225,4.225; 1C18 4.875,4.225; 1C19 5.525,4.225; 1C20 6.175,4.225; 1D1 -6.175,3.575; 1D2 -5.525,3.575; 1D3 -4.875,3.575; 1D4 -4.225,3.575; 1D5 -3.575,3.575; 1D6 -2.925,3.575; 1D7 -2.275,3.575; 1D8 -1.625,3.575; 1D9 -0.975,3.575; 1D10 -0.325,3.575; 1D11 0.325,3.575; 1D12 0.975,3.575; 1D13 1.625,3.575; 1D14 2.275,3.575; 1D15 2.925,3.575; 1D16 3.575,3.575; 1D17 4.225,3.575; 1D18 4.875,3.575; 1D19 5.525,3.575; 1D20 6.175,3.575; 1E1 -6.175,2.925; 1E2 -5.525,2.925; 1E3 -4.875,2.925; 1E4 -4.225,2.925; 1E6 -2.925,2.925; 1E7 -2.275,2.925; 1E8 -1.625,2.925; 1E9 -0.975,2.925; 1E10 -0.325,2.925; 1E11 0.325,2.925; 1E12 0.975,2.925; 1E13 1.625,2.925; 1E14 2.275,2.925; 1E15 2.925,2.925; 1E16 3.575,2.925; 1E17 4.225,2.925; 1E18 4.875,2.925; 1E19 5.525,2.925; 1E20 6.175,2.925; 1F1 -6.175,2.275; 1F2 -5.525,2.275; 1F3 -4.875,2.275; 1F4 -4.225,2.275; 1F5 -3.575,2.275; 1F6 -2.925,2.275; 1F7 -2.275,2.275; 1F8 -1.625,2.275; 1F9 -0.975,2.275; 1F10 -0.325,2.275; 1F11 0.325,2.275; 1F12 0.975,2.275; 1F13 1.625,2.275; 1F14 2.275,2.275; 1F15 2.925,2.275; 1F16 3.575,2.275; 1F17 4.225,2.275; 1F18 4.875,2.275; 1F19 5.525,2.275; 1F20 6.175,2.275; 1G1 -6.175,1.625; 1G2 -5.525,1.625; 1G3 -4.875,1.625; 1G4 -4.225,1.625; 1G5 -3.575,1.625; 1G6 -2.925,1.625; 1G7 -2.275,1.625; 1G8 -1.625,1.625; 1G9 -0.975,1.625; 1G10 -0.325,1.625; 1G11 0.325,1.625; 1G12 0.975,1.625; 1G13 1.625,1.625; 1G14 2.275,1.625; 1G15 2.925,1.625; 1G16 3.575,1.625; 1G17 4.225,1.625; 1G18 4.875,1.625; 1G19 5.525,1.625; 1G20 6.175,1.625; 1H1 -6.175,0.975; 1H2 -5.525,0.975; 1H3 -4.875,0.975; 1H4 -4.225,0.975; 1H5 -3.575,0.975; 1H6 -2.925,0.975; 1H7 -2.275,0.975; 1H8 -1.625,0.975; 1H9 -0.975,0.975; 1H10 -0.325,0.975; 1H11 0.325,0.975; 1H12 0.975,0.975; 1H13 1.625,0.975; 1H14 2.275,0.975; 1H15 2.925,0.975; 1H16 3.575,0.975; 1H17 4.225,0.975; 1H18 4.875,0.975; 1H19 5.525,0.975; 1H20 6.175,0.975; 1J1 -6.175,0.325; 1J2 -5.525,0.325; 1J3 -4.875,0.325; 1J4 -4.225,0.325; 1J5 -3.575,0.325; 1J6 -2.925,0.325; 1J7 -2.275,0.325; 1J8 -1.625,0.325; 1J9 -0.975,0.325; 1J10 -0.325,0.325; 1J11 0.325,0.325; 1J12 0.975,0.325; 1J13 1.625,0.325; 1J14 2.275,0.325; 1J15 2.925,0.325; 1J16 3.575,0.325; 1J17 4.225,0.325; 1J18 4.875,0.325; 1J19 5.525,0.325; 1J20 6.175,0.325; 1K2 -5.525,-0.325; 1K3 -4.875,-0.325; 1K4 -4.225,-0.325; 1K5 -3.575,-0.325; 1K6 -2.925,-0.325; 1K7 -2.275,-0.325; 1K8 -1.625,-0.325; 1K9 -0.975,-0.325; 1K10 -0.325,-0.325; 1K11 0.325,-0.325; 1K12 0.975,-0.325; 1K13 1.625,-0.325; 1K14 2.275,-0.325; 1K15 2.925,-0.325; 1K16 3.575,-0.325; 1K17 4.225,-0.325; 1K18 4.875,-0.325; 1K19 5.525,-0.325; 1K20 6.175,-0.325; 1L1 -6.175,-0.975; 1L2 -5.525,-0.975; 1L3 -4.875,-0.975; 1L4 -4.225,-0.975; 1L5 -3.575,-0.975; 1L6 -2.925,-0.975; 1L7 -2.275,-0.975; 1L8 -1.625,-0.975; 1L9 -0.975,-0.975; 1L10 -0.325,-0.975; 1L11 0.325,-0.975; 1L12 0.975,-0.975; 1L13 1.625,-0.975; 1L14 2.275,-0.975; 1L15 2.925,-0.975; 1L19 5.525,-0.975; 1M3 -4.875,-1.625; 1M4 -4.225,-1.625; 1M5 -3.575,-1.625; 1M6 -2.925,-1.625; 1M7 -2.275,-1.625; 1M8 -1.625,-1.625; 1M9 -0.975,-1.625; 1M10 -0.325,-1.625; 1M11 0.325,-1.625; 1M12 0.975,-1.625; 1M13 1.625,-1.625; 1M14 2.275,-1.625; 1M15 2.925,-1.625; 1M16 3.575,-1.625; 1M17 4.225,-1.625; 1M18 4.875,-1.625; 1M19 5.525,-1.625; 1M20 6.175,-1.625; 1N1 -6.175,-2.275; 1N2 -5.525,-2.275; 1N3 -4.875,-2.275; 1N4 -4.225,-2.275; 1N5 -3.575,-2.275; 1N6 -2.925,-2.275; 1N7 -2.275,-2.275; 1N8 -1.625,-2.275; 1N9 -0.975,-2.275; 1N10 -0.325,-2.275; 1N11 0.325,-2.275; 1N12 0.975,-2.275; 1N13 1.625,-2.275; 1N14 2.275,-2.275; 1N15 2.925,-2.275; 1N16 3.575,-2.275; 1N17 4.225,-2.275; 1N18 4.875,-2.275; 1N19 5.525,-2.275; 1N20 6.175,-2.275; 1P1 -6.175,-2.925; 1P2 -5.525,-2.925; 1P3 -4.875,-2.925; 1P4 -4.225,-2.925; 1P5 -3.575,-2.925; 1P6 -2.925,-2.925; 1P7 -2.275,-2.925; 1P8 -1.625,-2.925; 1P9 -0.975,-2.925; 1P10 -0.325,-2.925; 1P11 0.325,-2.925; 1P12 0.975,-2.925; 1P13 1.625,-2.925; 1P14 2.275,-2.925; 1P15 2.925,-2.925; 1P16 3.575,-2.925; 1P17 4.225,-2.925; 1P18 4.875,-2.925; 1P19 5.525,-2.925; 1P20 6.175,-2.925; 1R1 -6.175,-3.575; 1R2 -5.525,-3.575; 1R3 -4.875,-3.575; 1R4 -4.225,-3.575; 1R5 -3.575,-3.575; 1R6 -2.925,-3.575; 1R7 -2.275,-3.575; 1R8 -1.625,-3.575; 1R9 -0.975,-3.575; 1R10 -0.325,-3.575; 1R11 0.325,-3.575; 1R12 0.975,-3.575; 1R13 1.625,-3.575; 1R14 2.275,-3.575; 1R15 2.925,-3.575; 1R16 3.575,-3.575; 1R17 4.225,-3.575; 1R18 4.875,-3.575; 1R19 5.525,-3.575; 1R20 6.175,-3.575; 1T1 -6.175,-4.225; 1T2 -5.525,-4.225; 1T3 -4.875,-4.225; 1T4 -4.225,-4.225; 1T5 -3.575,-4.225; 1T6 -2.925,-4.225; 1T7 -2.275,-4.225; 1T8 -1.625,-4.225; 1T9 -0.975,-4.225; 1T10 -0.325,-4.225; 1T11 0.325,-4.225; 1T12 0.975,-4.225; 1T13 1.625,-4.225; 1T14 2.275,-4.225; 1T15 2.925,-4.225; 1T16 3.575,-4.225; 1T17 4.225,-4.225; 1T18 4.875,-4.225; 1T19 5.525,-4.225; 1T20 6.175,-4.225; 1U1 -6.175,-4.875; 1U2 -5.525,-4.875; 1U3 -4.875,-4.875; 1U4 -4.225,-4.875; 1U5 -3.575,-4.875; 1U6 -2.925,-4.875; 1U7 -2.275,-4.875; 1U8 -1.625,-4.875; 1U9 -0.975,-4.875; 1U11 0.325,-4.875; 1U12 0.975,-4.875; 1U13 1.625,-4.875; 1U15 2.925,-4.875; 1U16 3.575,-4.875; 1U17 4.225,-4.875; 1U18 4.875,-4.875; 1U19 5.525,-4.875; 1U20 6.175,-4.875; 1V1 -6.175,-5.525; 1V2 -5.525,-5.525; 1V3 -4.875,-5.525; 1V4 -4.225,-5.525; 1V5 -3.575,-5.525; 1V6 -2.925,-5.525; 1V7 -2.275,-5.525; 1V8 -1.625,-5.525; 1V9 -0.975,-5.525; 1V11 0.325,-5.525; 1V12 0.975,-5.525; 1V13 1.625,-5.525; 1V15 2.925,-5.525; 1V16 3.575,-5.525; 1V17 4.225,-5.525; 1V18 4.875,-5.525; 1V19 5.525,-5.525; 1V20 6.175,-5.525
smd 0.25 x 0.25: A1 -7.4,6.8; A2 -7,6.8; A3 -6.6,6.8; A5 -5.8,6.8; A7 -5,6.8; A9 -4.2,6.8; A10 -3.8,6.8; A12 -3,6.8; A13 -2.6,6.8; A15 -1.8,6.8; A17 -1,6.8; A19 -0.2,6.8; A20 0.2,6.8; A22 1,6.8; A23 1.4,6.8; A26 2.6,6.8; A27 3,6.8; A29 3.8,6.8; A30 4.2,6.8; A32 5,6.8; A33 5.4,6.8; A35 6.2,6.8; A37 7,6.8; A38 7.4,6.8; AA2 -7,-1.2; AA37 7,-1.2; AA38 7.4,-1.2; AB1 -7.4,-1.6; AB2 -7,-1.6; AB37 7,-1.6; AB38 7.4,-1.6; AC2 -7,-2; AC37 7,-2; AD1 -7.4,-2.4; AD2 -7,-2.4; AD37 7,-2.4; AD38 7.4,-2.4; AE2 -7,-2.8; AE37 7,-2.8; AF1 -7.4,-3.2; AF2 -7,-3.2; AF37 7,-3.2; AF38 7.4,-3.2; AG2 -7,-3.6; AG37 7,-3.6; AG38 7.4,-3.6; AH2 -7,-4; AH37 7,-4; AJ1 -7.4,-4.4; AJ2 -7,-4.4; AJ37 7,-4.4; AJ38 7.4,-4.4; AK2 -7,-4.8; AK37 7,-4.8; AK38 7.4,-4.8; AL1 -7.4,-5.2; AL2 -7,-5.2; AL37 7,-5.2; AM1 -7.4,-5.6; AM2 -7,-5.6; AM37 7,-5.6; AM38 7.4,-5.6; AN2 -7,-6; AN37 7,-6; AN38 7.4,-6; AP1 -7.4,-6.4; AP2 -7,-6.4; AP3 -6.6,-6.4; AP4 -6.2,-6.4; AP5 -5.8,-6.4; AP6 -5.4,-6.4; AP7 -5,-6.4; AP8 -4.6,-6.4; AP9 -4.2,-6.4; AP10 -3.8,-6.4; AP11 -3.4,-6.4; AP12 -3,-6.4; AP13 -2.6,-6.4; AP14 -2.2,-6.4; AP15 -1.8,-6.4; AP16 -1.4,-6.4; AP17 -1,-6.4; AP18 -0.6,-6.4; AP19 -0.2,-6.4; AP20 0.2,-6.4; AP21 0.6,-6.4; AP22 1,-6.4; AP23 1.4,-6.4; AP24 1.8,-6.4; AP25 2.2,-6.4; AP26 2.6,-6.4; AP27 3,-6.4; AP28 3.4,-6.4; AP29 3.8,-6.4; AP30 4.2,-6.4; AP31 4.6,-6.4; AP32 5,-6.4; AP33 5.4,-6.4; AP34 5.8,-6.4; AP35 6.2,-6.4; AP36 6.6,-6.4; AP37 7,-6.4; AR1 -7.4,-6.8; AR2 -7,-6.8; AR4 -6.2,-6.8; AR6 -5.4,-6.8; AR7 -5,-6.8; AR9 -4.2,-6.8; AR10 -3.8,-6.8; AR12 -3,-6.8; AR14 -2.2,-6.8; AR15 -1.8,-6.8; AR17 -1,-6.8; AR18 -0.6,-6.8; AR20 0.2,-6.8; AR21 0.6,-6.8; AR23 1.4,-6.8; AR24 1.8,-6.8; AR26 2.6,-6.8; AR27 3,-6.8; AR29 3.8,-6.8; AR30 4.2,-6.8; AR32 5,-6.8; AR33 5.4,-6.8; AR35 6.2,-6.8; AR36 6.6,-6.8; AR38 7.4,-6.8; B1 -7.4,6.4; B2 -7,6.4; B3 -6.6,6.4; B4 -6.2,6.4; B5 -5.8,6.4; B6 -5.4,6.4; B7 -5,6.4; B8 -4.6,6.4; B9 -4.2,6.4; B10 -3.8,6.4; B11 -3.4,6.4; B12 -3,6.4; B13 -2.6,6.4; B14 -2.2,6.4; B15 -1.8,6.4; B16 -1.4,6.4; B17 -1,6.4; B18 -0.6,6.4; B19 -0.2,6.4; B20 0.2,6.4; B21 0.6,6.4; B22 1,6.4; B23 1.4,6.4; B24 1.8,6.4; B25 2.2,6.4; B26 2.6,6.4; B27 3,6.4; B28 3.4,6.4; B29 3.8,6.4; B30 4.2,6.4; B31 4.6,6.4; B32 5,6.4; B33 5.4,6.4; B34 5.8,6.4; B35 6.2,6.4; B36 6.6,6.4; B37 7,6.4; B38 7.4,6.4; C1 -7.4,6; C2 -7,6; C37 7,6; D2 -7,5.6; D37 7,5.6; D38 7.4,5.6; E1 -7.4,5.2; E2 -7,5.2; E37 7,5.2; F1 -7.4,4.8; F2 -7,4.8; F37 7,4.8; F38 7.4,4.8; G2 -7,4.4; G37 7,4.4; G38 7.4,4.4; H1 -7.4,4; H2 -7,4; H37 7,4; J2 -7,3.6; J37 7,3.6; J38 7.4,3.6; K1 -7.4,3.2; K2 -7,3.2; K37 7,3.2; K38 7.4,3.2; L2 -7,2.8; L37 7,2.8; M1 -7.4,2.4; M2 -7,2.4; M37 7,2.4; M38 7.4,2.4; N1 -7.4,2; N2 -7,2; N37 7,2; N38 7.4,2; P2 -7,1.6; P37 7,1.6; R1 -7.4,1.2; R2 -7,1.2; R37 7,1.2; R38 7.4,1.2; T2 -7,0.8; T37 7,0.8; T38 7.4,0.8; U2 -7,0.4; U37 7,0.4; V1 -7.4,0; V2 -7,0; V37 7,0; V38 7.4,0; W2 -7,-0.4; W37 7,-0.4; W38 7.4,-0.4; Y1 -7.4,-0.8; Y2 -7,-0.8; Y37 7,-0.8